# Altium schematic symbol library Motor_Driver.SchLib: 3 symbols
Pins are listed as number, name and electrical type; pins without a type are passive.

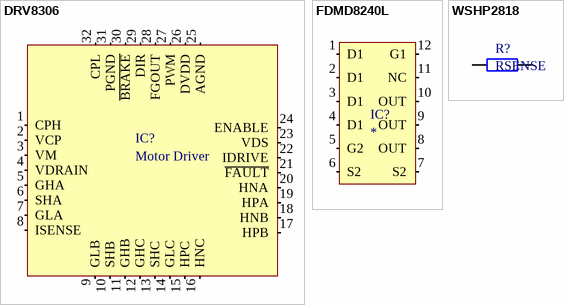
[diagram p0: symbols DRV8306 to WSHP2818]

## DRV8306
designator IC?, comment Motor Driver
DRV8306 38-V Brushless DC Motor Controller
pins: 1 CPH (power), 2 VCP (power), 3 VM (power), 4 VDRAIN (in), 5 GHA (out), 6 SHA (in), 7 GLA (out), 8 ISENSE (in), 9 GLB (out), 10 SHB (in), 11 GHB (out), 12 GHC (out), 13 SHC (in), 14 GLC (out), 15 HPC (in), 16 HNC (in), 17 HPB (in), 18 HNB (in), 19 HPA (in), 20 HNA (in), 21 ~{FAULT} (oc), 22 IDRIVE (in), 23 VDS (in), 24 ENABLE (in), 25 AGND (power), 26 DVDD (power), 27 PWM (in), 28 FGOUT (oc), 29 DIR (in), 30 ~{BRAKE} (in), 31 PGND (power), 32 CPL (power)

## FDMD8240L
designator IC?
Dual N-Channel Power Trench MOSFET 40, 98A, 2.6mOhms
footprint PQFN-12 (FDMD8240L PQFN-12)
pins: 1 D1, 2 D1, 3 D1, 4 D1, 5 G2, 6 S2, 7 S2, 8 OUT "D2/S1", 9 OUT "D2/S1", 10 OUT "D2/S1", 11 NC "G1R", 12 G1

## WSHP2818
designator R?, comment RSENSE
Current Sense Resistors - SMD 10W .025ohms 1%
pins: 1, 2